# Altium schematic symbol library SamacSys.SchLib: 12 symbols
Pins are listed as number, name and electrical type; pins without a type are passive.

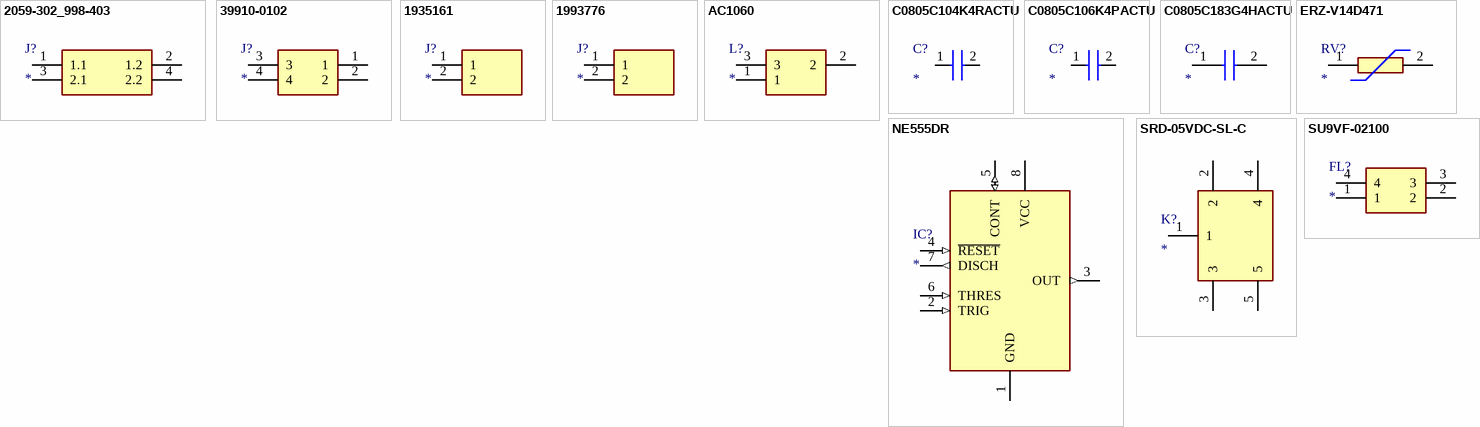
[diagram p0: symbols 2059-302_998-403 to SU9VF-02100]

## 2059-302_998-403
designator J?
Connector; Manufacturer_Name: Wago; Manufacturer_Part_Number: 2059-302/998-403; Datasheet Link: https://www.wago.com/2059-302/998-403; Arrow Part Number: 2059-302/998-403; Arrow Price/Stock: https://www.arrow.com/en/products/2059-302998-403/wago-kontakttechnik-gmbh?region=europe
footprint 2059302998403
pins: 1 1.1, 2 1.2, 3 2.1, 4 2.2

## 39910-0102
designator J?
Connector; Manufacturer_Name: Molex; Manufacturer_Part_Number: 39910-0102; Datasheet Link: https://www.molex.com/pdm_docs/sd/399100102_sd.pdf; Height: 29.7mm; Mouser Part Number: 538-39910-0102; Mouser Price/Stock: https://www.mouser.co.uk/ProductDetail/Molex/39910-0102?qs=QQJxVsr8EGYhTpjfvl4rKw%3D%3D
footprint 399100102
pins: 1, 2, 3, 4

## 1935161
designator J?
Connector; Manufacturer_Name: Phoenix Contact; Manufacturer_Part_Number: 1935161; Datasheet Link: https://datasheet.datasheetarchive.com/originals/distributors/SFDatasheet-2/sf-00057459.pdf; Height: 11.55mm; Mouser Part Number: 651-1935161; Mouser Price/Stock: https://www.mouser.co.uk/ProductDetail/Phoenix-Contact/1935161?qs=W3wJikR1%252BS6eKzfFl8Rbew%3D%3D; Arrow Part Number: 1935161; Arrow Price/Stock: https://www.arrow.com/en/products/1935161/phoenix-contact?region=nac
footprint 1935161
pins: 1, 2

## 1993776
designator J?
Connector; Manufacturer_Name: Phoenix Contact; Manufacturer_Part_Number: 1993776; Datasheet Link: http://www.phoenixcontact.com/de/produkte/1993776/pdf; Height: 31mm; Mouser Part Number: 651-1993776; Mouser Price/Stock: https://www.mouser.co.uk/ProductDetail/Phoenix-Contact/1993776?qs=eiqBpq341KVDuanaesYp0g%3D%3D; Arrow Part Number: 1993776; Arrow Price/Stock: https://www.arrow.com/en/products/1993776/phoenix-contact?region=nac
footprint 1993776
pins: 1, 2

## AC1060
designator L?
Inductor; Manufacturer_Name: Talema Group LLC; Manufacturer_Part_Number: AC1060; Datasheet Link: https://datasheet.datasheetarchive.com/originals/distributors/Datasheets_SAMA/a09f01302cd5774f4eb110e0a09641df.pdf; Height: 38.1mm
footprint AC1060
pins: 1, 2, 3

## C0805C104K4RACTU
designator C?
Capacitor/0.1uF; Manufacturer_Name: KEMET; Manufacturer_Part_Number: C0805C104K4RACTU; Description: SMD Comm X7R; Datasheet Link: https://content.kemet.com/datasheets/KEM_C1002_X7R_SMD.pdf; Height: 1.1mm; Mouser Part Number: 80-C0805C104K4R; Mouser Price/Stock: https://www.mouser.co.uk/ProductDetail/KEMET/C0805C104K4RACTU?qs=Pc30aiB8zWWfqQNJWggt%252BA%3D%3D; Arrow Part Number: C0805C104K4RACTU; Arrow Price/Stock: https://www.arrow.com/en/products/c0805c104k4ractu/kemet-corporation?region=nac
footprint C0805
pins: 1, 2

## C0805C106K4PACTU
designator C?
Capacitor/ 10uF; Manufacturer_Name: KEMET; Manufacturer_Part_Number: C0805C106K4PACTU; Description: SMD Comm X5R; Datasheet Link: https://content.kemet.com/datasheets/KEM_C1006_X5R_SMD.pdf; Height: 1.1mm; Mouser Part Number: 80-C0805C106K4P; Mouser Price/Stock: https://www.mouser.co.uk/ProductDetail/KEMET/C0805C106K4PACTU?qs=LOQsJ2JwiRQzQlGR%2F0Z13g%3D%3D; Arrow Part Number: C0805C106K4PACTU; Arrow Price/Stock: https://www.arrow.com/en/products/c0805c106k4pactu/kemet-corporation
footprint C0805
pins: 1, 2

## C0805C183G4HACTU
designator C?
Capacitor/18nF; Manufacturer_Name: KEMET; Manufacturer_Part_Number: C0805C183G4HACTU; Datasheet Link: https://content.kemet.com/datasheets/KEM_C1007_X8R_ULTRA_150C_SMD.pdf; Height: 1.1mm; Mouser Part Number: 80-C0805C183G4HACTU; Mouser Price/Stock: https://www.mouser.com/Search/Refine.aspx?Keyword=80-C0805C183G4HACTU
footprint C0805
pins: 1, 2

## ERZ-V14D471
designator RV?
Varistor; Manufacturer_Name: Panasonic; Manufacturer_Part_Number: ERZ-V14D471; Datasheet Link: https://industrial.panasonic.com/cdbs/www-data/pdf/AWA0000/AWA0000C1.pdf; Height: 18.5mm; Mouser Part Number: 667-ERZ-V14D471; Mouser Price/Stock: https://www.mouser.co.uk/ProductDetail/Panasonic/ERZ-V14D471?qs=7ArRMqRiXR1EwJfpU3T7Ew%3D%3D; Arrow Part Number: ERZ-V14D471; Arrow Price/Stock: https://www.arrow.com/en/products/erz-v14d471/panasonic
footprint ERZV14D471
pins: 1, 2

## NE555DR
designator IC?
Integrated Circuit; Manufacturer_Name: Texas Instruments; Manufacturer_Part_Number: NE555DR; Datasheet Link: http://www.ti.com/lit/ds/symlink/ne555.pdf; Height: 1.75mm; Mouser Part Number: 595-NE555DR; Mouser Price/Stock: https://www.mouser.com/Search/Refine.aspx?Keyword=595-NE555DR; RS Part Number: 1218414; RS Price/Stock: http://uk.rs-online.com/web/p/products/1218414
footprint SOIC127P600X175-8N
pins: 1 GND (power), 2 TRIG (in), 3 OUT (out), 4 ~{RESET} (in), 5 CONT (io), 6 THRES (in), 7 DISCH (out), 8 VCC (power)

## SRD-05VDC-SL-C
designator K?
Relay or Contactor; Manufacturer_Name: Songle Relay; Manufacturer_Part_Number: SRD-05VDC-SL-C; Datasheet Link: http://files.microjpm.webnode.com/200001010-dda41de9e1/Songle%20Relay%20Datasheet.pdf
footprint SRD
pins: 1, 2, 3, 4, 5

## SU9VF-02100
designator FL?
Filter; Manufacturer_Name: KEMET; Manufacturer_Part_Number: SU9VF-02100; Datasheet Link: https://content.kemet.com/datasheets/KEM_LF0017_SU9VF-9HF.pdf; Height: 17mm; Mouser Part Number: 80-SU9VF-02100; Mouser Price/Stock: https://www.mouser.co.uk/ProductDetail/KEMET/SU9VF-02100?qs=BenOyfdfArr5wEjIaShULA%3D%3D; Arrow Part Number: SU9VF-02100; Arrow Price/Stock: https://www.arrow.com/en/products/su9vf-02100/kemet-corporation?region=nac
footprint SU9VF02100
pins: 1, 2, 3, 4